# Altium footprint library Miscellaneous Devices PCB.PcbLib: 48 footprints (part 1 of 3)
Each footprint in its own frame and in the unit in brackets; x right, y up, seen from the top. Pads: shape width x height; smd on the part's side, far side on the other; paste and mask are expansions set on the pad; w line width, h text height; cw(c..) or ccw(c..) is an arc to the next point about the centre after c.
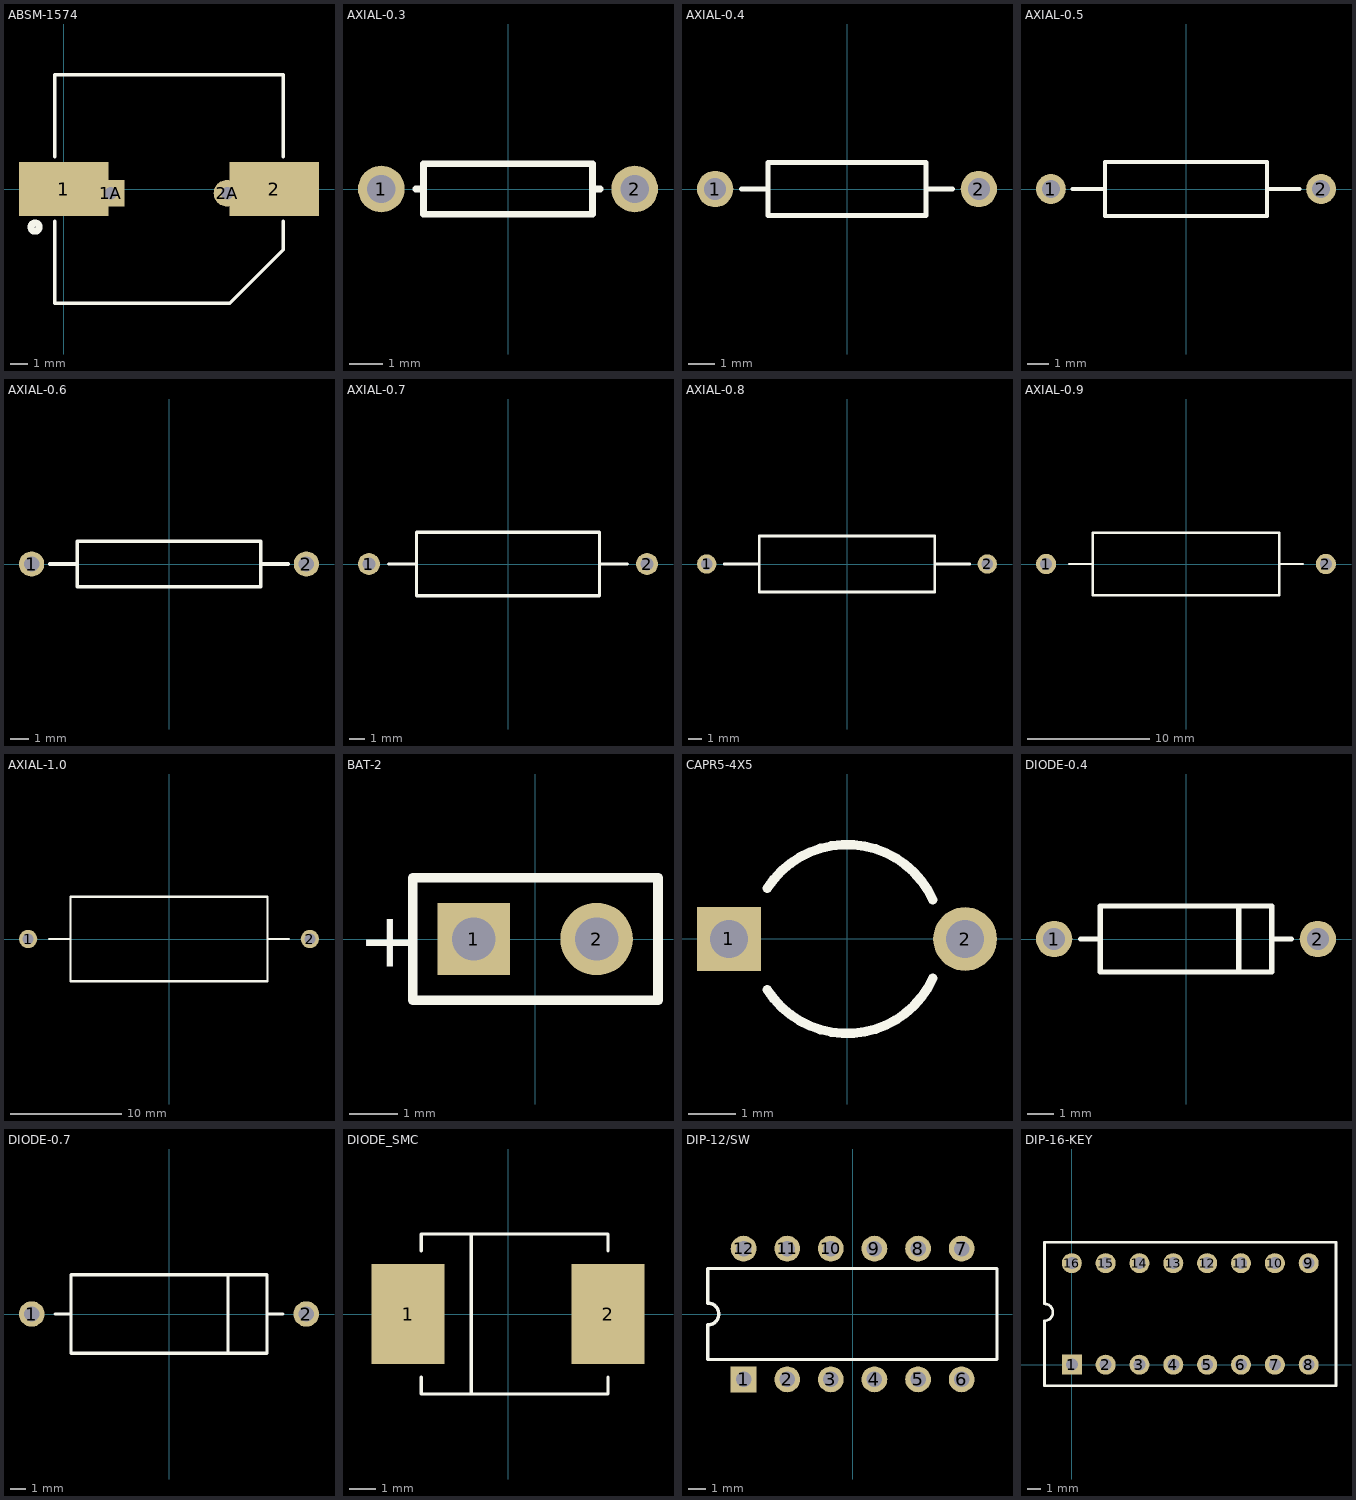
[diagram p0: the footprints below, top view; thin cyan lines are the x and y axes]

## ABSM-1574 [mm] "Magnetic Transducer Buzzer"
pads (4):
  rect 5x3 smd: 1(0,0) 2(11.8,0)
  rect 1.5x1.5 hole 0.7: 1A(2.65,-0.24)
  round 1.5 hole 0.7: 2A(9.15,-0.24)
Top Overlay:
  circle w0.4: c-1.6,-2.134 r0.227
  lines w0.2: -0.5,-1.8 -0.5,-6.4 9.3,-6.4 12.3,-3.4 12.3,-1.8 ; -0.5,1.8 -0.5,6.4 12.3,6.4 12.3,1.8

## AXIAL-0.3 [mm]
height 1.524
pads (2):
  round 1.4 hole 0.85: 1(-3.81,0) 2(3.81,0)
Top Overlay:
  lines w0.2: -2.769,0 -2.54,0 ; 2.769,0 2.54,0 ; 2.54,0 2.54,-0.762 -2.54,-0.762 -2.54,0.762 2.54,0.762 2.54,0

## AXIAL-0.4 [mm]
height 2.032
pads (2):
  round 1.4 hole 0.85: 1(-5.08,0) 2(5.08,0)
Top Overlay:
  lines w0.2: -4.064,0 -3.048,0 ; 3.048,0 4.064,0 ; -3.048,-1.016 3.048,-1.016 3.048,1.016 -3.048,1.016 -3.048,-1.016

## AXIAL-0.5 [mm]
height 2.54
pads (2):
  round 1.4 hole 0.85: 1(-6.35,0) 2(6.35,0)
Top Overlay:
  lines w0.2: -5.334,0 -3.81,0 ; 3.81,0 5.334,0 ; -3.81,-1.27 -3.81,1.27 3.81,1.27 3.81,-1.27 -3.81,-1.27

## AXIAL-0.6 [mm]
height 2.54
pads (2):
  round 1.4 hole 0.85: 1(-7.62,0) 2(7.62,0)
Top Overlay:
  lines w0.2: -6.604,0 -5.08,0 ; 5.08,0 6.604,0 ; -5.08,-1.27 -5.08,1.27 5.08,1.27 5.08,-1.27 -5.08,-1.27

## AXIAL-0.7 [mm]
height 4.064
pads (2):
  round 1.4 hole 0.85: 1(-8.89,0) 2(8.89,0)
Top Overlay:
  lines w0.2: -7.62,0 -5.842,0 ; 5.842,0 7.62,0 ; -5.842,-2.032 5.842,-2.032 5.842,2.032 -5.842,2.032 -5.842,-2.032

## AXIAL-0.8 [mm]
height 4.064
pads (2):
  round 1.4 hole 0.85: 1(-10.16,0) 2(10.16,0)
Top Overlay:
  lines w0.2: -8.89,0 -6.35,0 ; 6.35,0 8.89,0 ; -6.35,-2.032 -6.35,2.032 6.35,2.032 6.35,-2.032 -6.35,-2.032

## AXIAL-0.9 [mm]
height 5.08
pads (2):
  round 1.65 hole 1: 1(-11.43,0) 2(11.43,0)
Top Overlay:
  lines w0.2: -9.525,0 -7.62,0 ; 7.62,0 9.525,0 ; -7.62,-2.54 7.62,-2.54 7.62,2.54 -7.62,2.54 -7.62,-2.54

## AXIAL-1.0 [mm]
height 7.62
pads (2):
  round 1.65 hole 1: 1(-12.7,0) 2(12.7,0)
Top Overlay:
  lines w0.2: -10.795,0 -8.89,0 ; 8.89,0 10.795,0 ; -8.89,-3.81 -8.89,3.81 8.89,3.81 8.89,-3.81 -8.89,-3.81

## BAT-2 [mm]
pads (2):
  rect 1.5x1.5 hole 0.9: 1(-1.27,0)
  round 1.5 hole 0.9: 2(1.27,0)
Top Overlay:
  lines w0.2: -2.54,-1.27 2.54,-1.27 2.54,1.27 -2.54,1.27 -2.54,-1.27
  text "+" at -3.67,-0.577 h1.15

## CAPR5-4X5 [mm]
height 12
pads (2):
  rect 1.35x1.35 hole 0.8: 1(-2.5,0)
  round 1.35 hole 0.8: 2(2.5,0)
Top Overlay:
  lines w0.2: -1.687,-1.075 ccw(c0,0) 1.819,-0.832 ; -1.687,1.075 cw(c0,0) 1.819,0.832

## DIODE-0.4 [mm]
height 2.54
pads (2):
  round 1.4 hole 0.85: 1(-5.08,0) 2(5.08,0)
Top Overlay:
  lines w0.2: -4.064,0 -3.302,0 ; 2.032,-1.27 2.032,1.27 ; 3.302,0 4.064,0 ; -3.302,-1.27 -3.302,1.27 3.302,1.27 3.302,-1.27 -3.302,-1.27

## DIODE-0.7 [mm]
height 5.08
pads (2):
  round 1.65 hole 1: 1(-8.89,0) 2(8.89,0)
Top Overlay:
  lines w0.2: -7.366,0 -6.35,0 ; 3.81,-2.54 3.81,2.54 ; 6.35,0 7.366,0 ; -6.35,-2.54 -6.35,2.54 6.35,2.54 6.35,-2.54 -6.35,-2.54

## DIODE_SMC [mil]
pads (2):
  rect 110x150 smd: 1(-150,0) 2(150,0)
Top Overlay:
  lines w5: -130,-95 -130,-120 150,-120 150,-95 ; -130,95 -130,120 150,120 150,95 ; -55,-120 -55,120
Mechanical 1:
  lines w1: -130,-120 150,-120 ; -130,120 150,120

## DIP-12/SW [mm]
height 5.8
pads (12):
  rect 1.5x1.5 hole 0.9: 1(-6.35,-3.81)
  round 1.5 hole 0.9: 2(-3.81,-3.81) 3(-1.27,-3.81) 4(1.27,-3.81) 5(3.81,-3.81) 6(6.35,-3.81) 7(6.35,3.81) 8(3.81,3.81) 9(1.27,3.81) 10(-1.27,3.81) 11(-3.81,3.81) 12(-6.35,3.81)
Top Overlay:
  lines w0.2: -8.43,-2.65 8.41,-2.65 8.41,2.65 -8.43,2.65 -8.43,0.635 cw(c-8.43,0) -8.43,-0.635 -8.43,-2.65

## DIP-16-KEY [mm]
pads (16):
  rect 1.5x1.5 hole 0.9: 1(0,0)
  round 1.5 hole 0.9: 2(2.54,0) 3(5.08,0) 4(7.62,0) 5(10.16,0) 6(12.7,0) 7(15.24,0) 8(17.78,0) 9(17.78,7.62) 10(15.24,7.62) 11(12.7,7.62) 12(10.16,7.62) 13(7.62,7.62) 14(5.08,7.62) 15(2.54,7.62) 16(0,7.62)
Top Overlay:
  lines w0.2: -2.05,4.57 cw(c-2.05,3.935) -2.05,3.3 -2.05,-1.59 19.83,-1.59 19.83,9.2 -2.05,9.2 -2.05,4.6